# EAGLE library part MPPT (library EL_POTENCIA_LIBRERIA_VES2018)
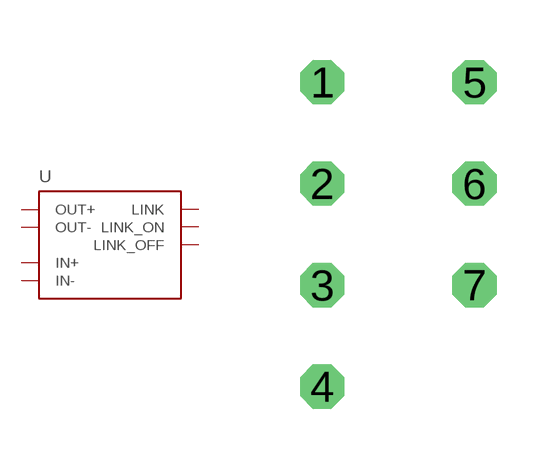
[diagram p18: symbol with the pads of MPPT; footprint MPPT]

Designator prefix -

## MPPT  [MPPT]
1  IN+
2  IN-
3  LINK
4  LINK_OFF
5  LINK_ON
6  OUT+
7  OUT-

## Footprint MPPT (pad centres in mm)
drill 0.6 octagon: 1 -6.35,2.54; 2 -6.35,0; 3 -6.35,-2.54; 4 -6.35,-5.08; 5 -2.54,2.54; 6 -2.54,0; 7 -2.54,-2.54